# Altium footprint library header_pin.PcbLib: 14 footprints
Each footprint in its own frame and in the unit in brackets; x right, y up, seen from the top. Pads: shape width x height; smd on the part's side, far side on the other; paste and mask are expansions set on the pad; w line width, h text height; cw(c..) or ccw(c..) is an arc to the next point about the centre after c.
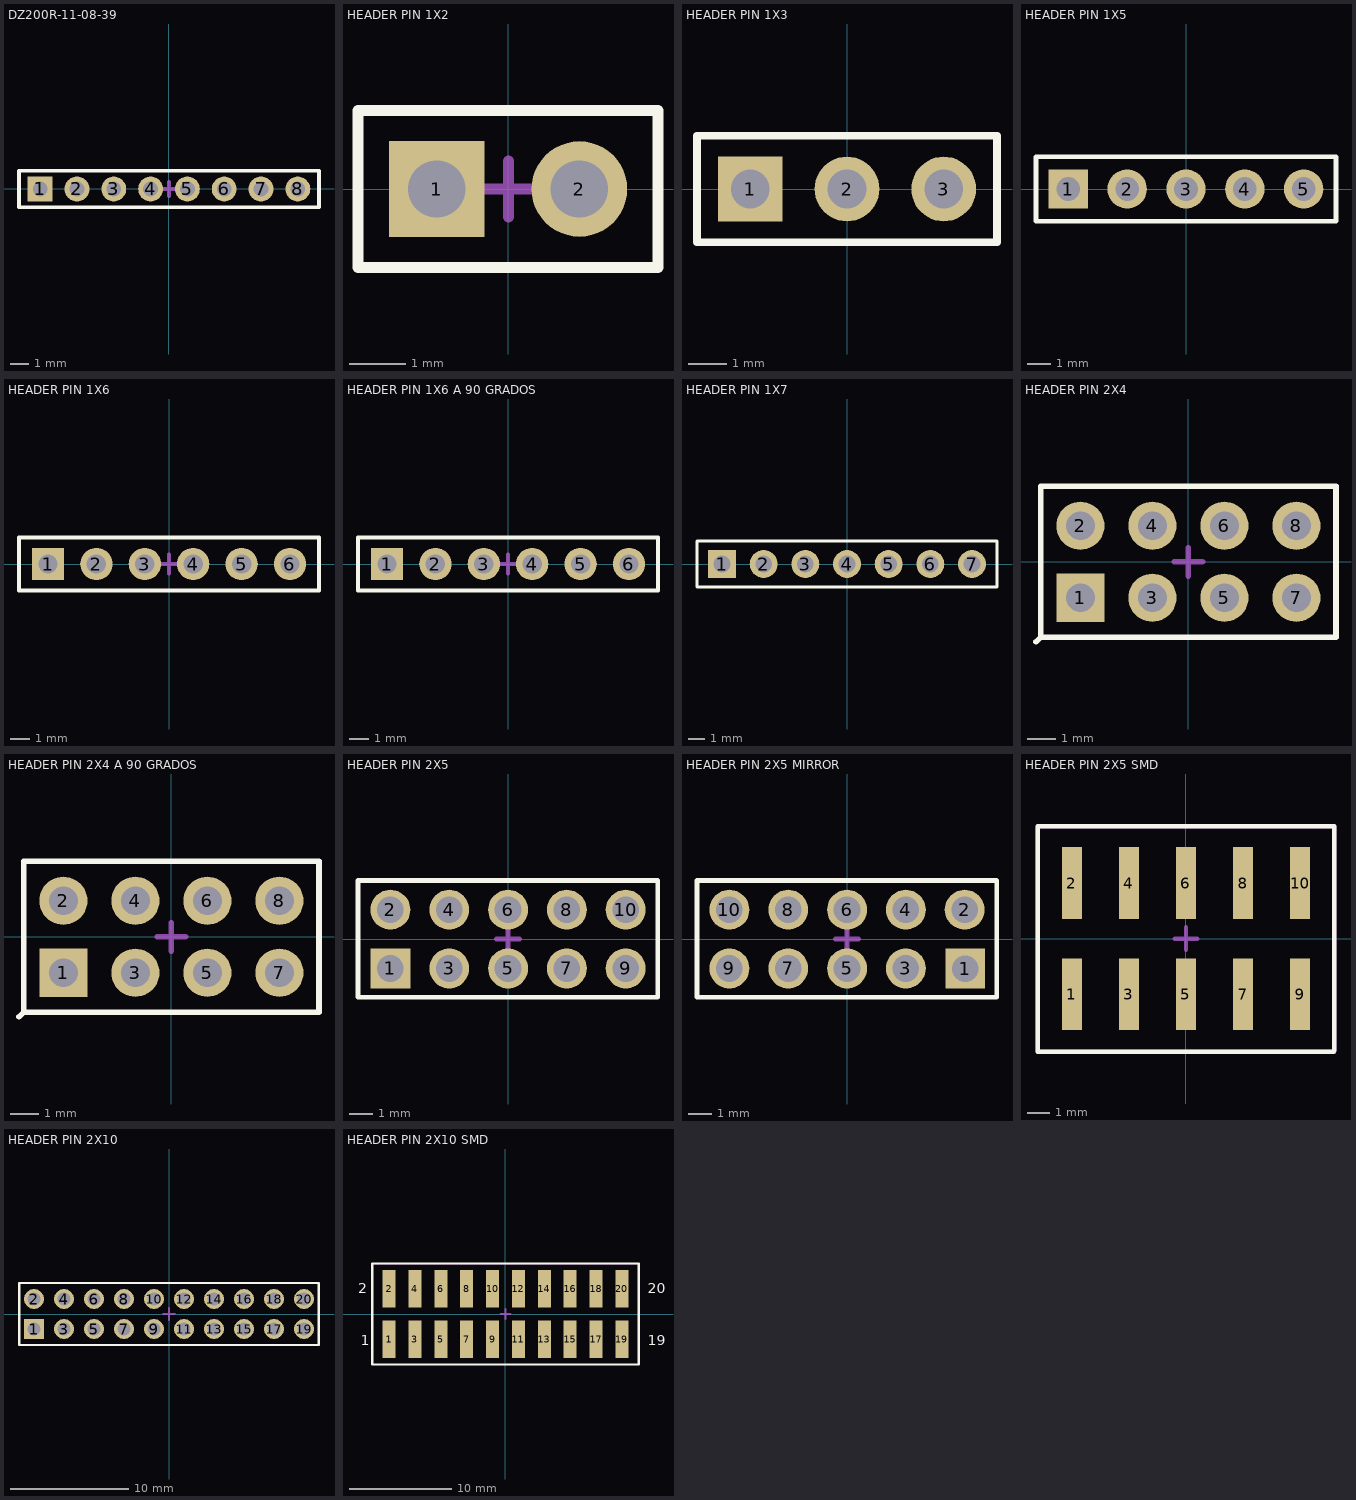
[diagram p0: the footprints below, top view; thin cyan lines are the x and y axes]

## DZ200R-11-08-39 [mm]
pads (8):
  rect 1.35x1.35 hole 0.8: 1(-7,0)
  round 1.35 hole 0.8: 2(-5,0) 3(-3,0) 4(-1,0) 5(1,0) 6(3,0) 7(5,0) 8(7,0)
Top Overlay:
  lines w0.2: -8.15,-1 -8.15,1 8.15,1 8.15,-1 -8.15,-1
Top Courtyard (Mech15):
  lines w0.1: -8.15,-1 8.15,-1 8.15,1 -8.15,1 -8.15,-1
  lines w0.2: -0.4,0 0,0 ; 0,-0.4 0,0 ; 0,0.4 0,0 ; 0.4,0 0,0
  text "'.Designator'" at -7.1,-0.133 h0.5
3D body "M22-2010805.stp": height 5.25, standoff -3.65, extent -8,-1 8,1

## HEADER PIN 1X2 [mm]
pads (2):
  rect 1.7x1.7 hole 1.02: 1(-1.27,0)
  round 1.7 hole 1.02: 2(1.27,0)
Top Overlay:
  lines w0.2: -2.667,-1.397 -2.667,1.397 2.667,1.397 2.667,-1.397 -2.667,-1.397
Top Courtyard (Mech15):
  lines w0.1: -2.667,-1.397 2.667,-1.397 2.667,1.397 -2.667,1.397 -2.667,-1.397
  lines w0.2: -0.492,0 0.508,0 ; 0.008,-0.5 0.008,0.5
  text "'.Designator'" at -0.41,0.982 h0.2
3D body "User Library-Header1x2.STEP": height 8.49, standoff -2.49, extent -2.54,-1.27 2.54,1.27

## HEADER PIN 1X3 [mm]
pads (3):
  rect 1.7x1.7 hole 1.02: 1(-2.54,0)
  round 1.7 hole 1.02: 2(0,0) 3(2.54,0)
Top Overlay:
  lines w0.2: -3.937,-1.397 -3.937,1.397 3.937,1.397 3.937,-1.397 -3.937,-1.397
Top Courtyard (Mech15):
  lines w0.1: -3.937,-1.397 -3.937,1.397 3.937,1.397 3.937,-1.397 -3.937,-1.397
  lines w0.2: -0.5,0 0.5,0 ; 0,-0.5 0,0.5
  text "'.Designator'" at 1.14,0.907 h0.2
3D body "PIN 3x1.stp": height 8.57, standoff -2.97, extent -3.81,-1.27 3.81,1.27

## HEADER PIN 1X5 [mm]
pads (5):
  rect 1.7x1.7 hole 1.02: 1(-5.08,0)
  round 1.7 hole 1.02: 2(-2.54,0) 3(0,0) 4(2.54,0) 5(5.08,0)
Top Overlay:
  lines w0.2: -6.477,-1.397 6.477,-1.397 6.477,1.397 -6.477,1.397 -6.477,-1.397
Top Courtyard (Mech15):
  lines w0.1: -6.477,-1.397 -6.477,1.397 6.477,1.397 6.477,-1.397 -6.477,-1.397
  lines w0.2: -0.5,0 0.5,0 ; 0,-0.5 0,0.5
  text "'.Designator'" at -5.55,-0.95 h1
3D body "PIN5x1.stp": height 8.47, standoff -3.07, extent -6.35,-1.27 6.35,1.27

## HEADER PIN 1X6 [mm]
pads (6):
  rect 1.7x1.7 hole 1.02: 1(-6.35,0)
  round 1.7 hole 1.02: 2(-3.81,0) 3(-1.27,0) 4(1.27,0) 5(3.81,0) 6(6.35,0)
Top Overlay:
  lines w0.2: -7.874,-1.397 7.874,-1.397 7.874,1.397 -7.874,1.397 -7.874,-1.397
Top Courtyard (Mech15):
  lines w0.1: -7.874,-1.397 7.874,-1.397 7.874,1.397 -7.874,1.397 -7.874,-1.397
  lines w0.2: -0.5,0 0.5,0 ; 0,-0.5 0,0.5
  text "'.Designator'" at -7.125,-0.9 h1
3D body "BPSC-06.stp": height 8.74, standoff -2.8, extent -7.62,-1.27 7.62,1.27

## HEADER PIN 1X6 A 90 GRADOS [mm]
pads (6):
  rect 1.7x1.7 hole 1.02: 1(-6.35,0)
  round 1.7 hole 1.02: 2(-3.81,0) 3(-1.27,0) 4(1.27,0) 5(3.81,0) 6(6.35,0)
Top Overlay:
  lines w0.2: -7.874,-1.397 -7.874,1.397 7.874,1.397 7.874,-1.397 -7.874,-1.397
Top Courtyard (Mech15):
  lines w0.1: -7.874,-1.397 -7.874,1.397 7.874,1.397 7.874,-1.397 -7.874,-1.397
  lines w0.2: -0.5,0 0.5,0 ; 0,-0.5 0,0.5
  text "'.Designator'" at -7.125,-0.9 h1
3D body "5-103765-6.stp": height 3.55, standoff -2.24, extent -7.392,-8.992 7.442,0.717

## HEADER PIN 1X7 [mm]
pads (7):
  rect 1.7x1.7 hole 1.02: 1(-7.62,0)
  round 1.7 hole 1.02: 2(-5.08,0) 3(-2.54,0) 4(0,0) 5(2.54,0) 6(5.08,0) 7(7.62,0)
Top Overlay:
  lines w0.2: -9.144,-1.397 -9.144,1.397 9.144,1.397 9.144,-1.397 -9.144,-1.397
Top Courtyard (Mech15):
  lines w0.1: -9.144,-1.397 9.144,-1.397 9.144,1.397 -9.144,1.397 -9.144,-1.397
  lines w0.2: -0.5,0 0.5,0 ; 0,-0.5 0,0.5
  text "'.Designator'" at -7.75,-0.625 h1
3D body "2x7_Male_TH.stp": height 8.18, standoff -2.62, extent -8.865,-1.219 8.915,1.194

## HEADER PIN 2X4 [mm]
pads (8):
  rect 1.7x1.7 hole 1.02: 1(-3.81,-1.27)
  round 1.7 hole 1.02: 2(-3.81,1.27) 3(-1.27,-1.27) 4(-1.27,1.27) 5(1.27,-1.27) 6(1.27,1.27) 7(3.81,-1.27) 8(3.81,1.27)
Top Overlay:
  lines w0.2: -5.375,-2.825 -5.2,-2.65 -5.2,-2.625 ; -5.207,-2.667 -5.207,2.667 5.207,2.667 5.207,-2.667 -5.207,-2.667
Top Courtyard (Mech15):
  lines w0.1: -5.207,-2.667 -5.207,2.667 5.207,2.667 5.207,-2.667 -5.207,-2.667
  lines w0.2: -0.5,0 0.5,0 ; 0,-0.5 0,0.5
  text "'.Designator'" at -4.5,1.542 h0.5
3D body "zl202-8_p2-54_l10-2_w5-08_h8-89.stp": height 8.89, standoff -3.05, extent -5.08,-2.54 5.08,2.54

## HEADER PIN 2X4 A 90 GRADOS [mm]
pads (8):
  rect 1.7x1.7 hole 1.02: 1(-3.81,-1.27)
  round 1.7 hole 1.02: 2(-3.81,1.27) 3(-1.27,-1.27) 4(-1.27,1.27) 5(1.27,-1.27) 6(1.27,1.27) 7(3.81,-1.27) 8(3.81,1.27)
Top Overlay:
  lines w0.2: -5.375,-2.825 -5.2,-2.65 -5.2,-2.625 ; -5.207,-2.667 -5.207,2.667 5.207,2.667 5.207,-2.667 -5.207,-2.667
Top Courtyard (Mech15):
  lines w0.1: -5.207,-2.667 -5.207,2.667 5.207,2.667 5.207,-2.667 -5.207,-2.667
  lines w0.2: -0.5,0 0.5,0 ; 0,-0.5 0,0.5
  text "'.Designator'" at -4.5,1.542 h0.5
3D body "10-89-4082.stp": height 5.54, standoff -2.84, extent -4.953,-12.289 4.953,1.554

## HEADER PIN 2X5 [mm]
pads (10):
  rect 1.725x1.725 / inner round 1.725 / far side rect 1.725x1.725 hole 1.15: 1(-5.08,-1.27)
  round 1.725 hole 1.15: 2(-5.08,1.27) 3(-2.54,-1.27) 4(-2.54,1.27) 5(0,-1.27) 6(0,1.27) 7(2.54,-1.27) 8(2.54,1.27) 9(5.08,-1.27) 10(5.08,1.27)
Top Overlay:
  lines w0.2: -6.48,-2.52 -6.48,2.53 6.47,2.53 6.47,-2.52 -6.48,-2.52
Top Courtyard (Mech15):
  lines w0.1: -6.475,-2.525 -6.475,2.525 6.475,2.525 6.475,-2.525 -6.475,-2.525
  lines w0.2: -0.5,0 0.5,0 ; 0,-0.5 0,0.5
  text "'.Designator'" at -5.05,1.242 h0.5
3D body "67997-210HLF.stp": height 8.58, standoff -3.3, extent -6.35,-2.415 6.35,2.415
3D body "67997-210HLF.stp": height 8.58, standoff -3.3, extent -6.35,-2.415 6.35,2.415

## HEADER PIN 2X5 MIRROR [mm]
pads (10):
  rect 1.725x1.725 hole 1.15: 1(5.105,-1.28)
  round 1.725 hole 1.15: 2(5.08,1.27) 3(2.54,-1.27) 4(2.54,1.27) 5(0,-1.27) 6(0,1.27) 7(-2.54,-1.27) 8(-2.54,1.27) 9(-5.08,-1.27) 10(-5.08,1.27)
Top Overlay:
  lines w0.2: -6.48,-2.52 -6.48,2.53 6.47,2.53 6.47,-2.52 -6.48,-2.52
Top Courtyard (Mech15):
  lines w0.1: -6.475,-2.525 -6.475,2.525 6.475,2.525 6.475,-2.525 -6.475,-2.525
  lines w0.2: -0.5,0 0,0 ; 0,-0.5 0,0 ; 0,0.5 0,0 ; 0.5,0 0,0
  text "'.Designator'" at -5.6,1.267 h0.5
3D body "67997-210HLF.stp": height 8.58, standoff -3.3, extent -6.35,-2.415 6.35,2.415

## HEADER PIN 2X5 SMD [mm]
pads (10):
  rect 0.9x3.2 smd: 1(-5.08,-2.475) 2(-5.08,2.475) 3(-2.54,-2.475) 4(-2.54,2.475) 5(0,-2.475) 6(0,2.475) 7(2.54,-2.475) 8(2.54,2.475) 9(5.08,-2.475) 10(5.08,2.475)
Top Overlay:
  lines w0.2: -6.6,-5.025 6.575,-5.025 ; -6.6,-5 -6.6,5 6.6,5 6.6,-5
Top Courtyard (Mech15):
  lines w0.2: -6.6,-5.025 6.575,-5.025 ; -6.6,-5 -6.6,5 6.6,5 6.6,-5 ; -0.5,0 0,0 ; 0,-0.5 0,0 ; 0,0.5 0,0 ; 0.5,0 0,0
  text "'.Designator'" at -5.675,3.067 h0.5
3D body "2x5_Male_SMD.stp": height 10.3, standoff 0, extent -6.6,-3.75 6.6,3.75

## HEADER PIN 2X10 [mm]
pads (20):
  rect 1.7x1.7 hole 1.1: 1(-11.43,-1.27)
  round 1.7 hole 1.1: 2(-11.43,1.27) 3(-8.89,-1.27) 4(-8.89,1.27) 5(-6.35,-1.27) 6(-6.35,1.27) 7(-3.81,-1.27) 8(-3.81,1.27) 9(-1.27,-1.27) 10(-1.27,1.27) 11(1.27,-1.27) 12(1.27,1.27) 13(3.81,-1.27) 14(3.81,1.27) 15(6.35,-1.27) 16(6.35,1.27) 17(8.89,-1.27) 18(8.89,1.27) 19(11.43,-1.27) 20(11.43,1.27)
Top Overlay:
  lines w0.2: -12.675,-2.625 -12.675,2.625 12.675,2.625 12.675,-2.625 -12.675,-2.625
Top Courtyard (Mech15):
  lines w0.1: -12.7,-2.6 12.7,-2.6 12.7,2.6 -12.7,2.6 -12.7,-2.6
  lines w0.2: -0.5,0 0,0 ; 0,-0.5 0,0 ; 0,0.5 0,0 ; 0.5,0 0,0
  text "'.Designator'" at -11.425,1.192 h0.5
3D body "2x10_Male_Through_hole.stp": height 8.24, standoff -2.93, extent -12.497,-2.438 12.497,2.438

## HEADER PIN 2X10 SMD [mm]
pads (20):
  rect 1.27x3.68 smd: 1(-11.43,-2.475) 2(-11.43,2.475) 3(-8.89,-2.475) 4(-8.89,2.475) 5(-6.35,-2.475) 6(-6.35,2.475) 7(-3.81,-2.475) 8(-3.81,2.475) 9(-1.27,-2.475) 10(-1.27,2.475) 11(1.27,-2.475) 12(1.27,2.475) 13(3.81,-2.475) 14(3.81,2.475) 15(6.35,-2.475) 16(6.35,2.475) 17(8.89,-2.475) 18(8.89,2.475) 19(11.43,-2.475) 20(11.43,2.475)
Top Overlay:
  lines w0.2: -13.081,-4.951 -13.081,4.955 13.081,4.955 13.081,-4.951 -13.081,-4.951
  text "2" at -14.478,2.032 h1
  text "1" at -14.224,-3.048 h1
  text "20" at 13.97,2.032 h1
  text "19" at 13.97,-3.048 h1
Top Courtyard (Mech15):
  lines w0.1: -13.081,-4.951 13.081,-4.951 13.081,4.955 -13.081,4.955 -13.081,-4.951
  lines w0.2: -0.5,0 0.5,0 ; 0,-0.5 0,0.5
  text "'.Designator'" at -9.95,2.308 h1
3D body "TSM-110-02-SM-DV.stp": height 11.9, standoff -0.04, extent -12.7,-3.721 12.7,3.721